# Altium schematic symbol library REF2033.SchLib: 1 symbol
Pins are listed as number, name and electrical type; pins without a type are passive.

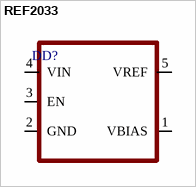
[diagram p0: symbol REF2033]

## REF2033
designator DD?
pins: 1 VBIAS, 2 GND, 3 EN, 4 VIN, 5 VREF